# EAGLE library part 1X10 (library jt-con-harwin)
AMPMODU II 2.54mm SMT unshrouded 10-position
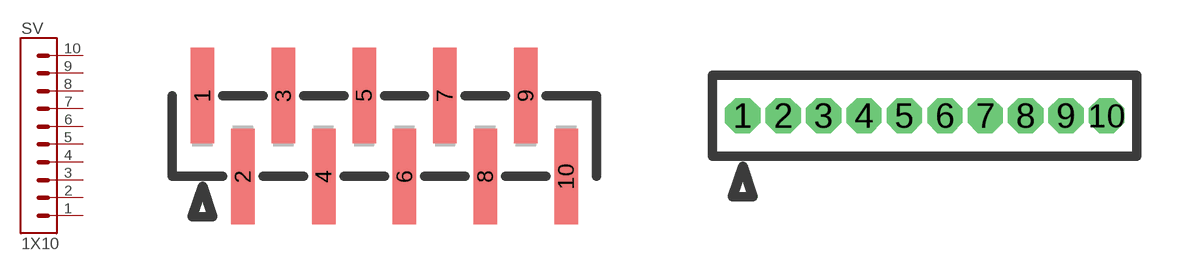
[diagram p0: symbol with the pads of M52-040000P1045; footprints M52-040000P1045, M52-040023V1045]

Designator prefix SV

## 1X10SMT  [M52-040000P1045]
1  1
2  2
3  3
4  4
5  5
6  6
7  7
8  8
9  9
10  10

## 1X10PTH  [M52-040023V1045]
Pads as for M52-040000P1045

## Footprint M52-040000P1045 (pad centres in mm)
smd 0.74 x 3: 1 -5.715,1.27; 2 -4.445,-1.27; 3 -3.175,1.27; 4 -1.905,-1.27; 5 -0.635,1.27; 6 0.635,-1.27; 7 1.905,1.27; 8 3.175,-1.27; 9 4.445,1.27; 10 5.715,-1.27

## Footprint M52-040023V1045 (pad centres in mm)
drill 0.6 octagon: 1 -5.715,0; 2 -4.445,0; 3 -3.175,0; 4 -1.905,0; 5 -0.635,0; 6 0.635,0; 7 1.905,0; 8 3.175,0; 9 4.445,0; 10 5.715,0